# Altium schematic symbol library SARA-R510S-00B.SchLib: 1 symbol
Pins are listed as number, name and electrical type; pins without a type are passive.

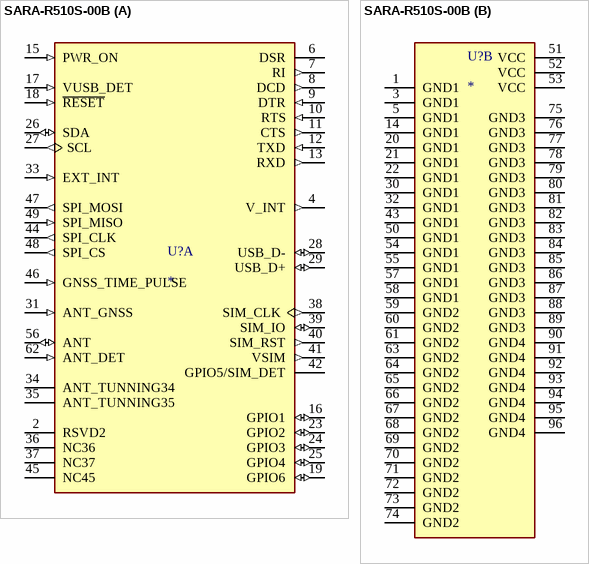
[diagram p0: symbol SARA-R510S-00B]

## SARA-R510S-00B
designator U?
Cellular LTE Cat M1, LTE Cat NB2 Transceiver Module 600MHz, 700MHz, 750MHz, 800MHz, 850MHz, 900MHz, 1.7GHz, 1.8GHz, 1.9GHz, 2.1GHz Antenna Not Included Surface Mount; MP: SARA-R510S-00B; MF: U-Blox; Package: SMD-96 u-blox; Availability: In Stock; Value: *; Purchase-URL: https://pricing.snapeda.com/search/part/SARA-R510S-00B/?ref=eda; Check_prices: https://www.snapeda.com/parts/SARA-R510S-00B/u-blox/view-part/?ref=eda; SnapEDA_Link: https://www.snapeda.com/parts/SARA-R510S-00B/u-blox/view-part/?ref=snap; Price: None
footprint MODULE_SARA-R510S-00B - CORRECTED
part A pins: 2 RSVD2, 4 V_INT (out), 6 DSR, 7 RI (out), 8 DCD (out), 9 DTR (in), 10 RTS (in), 11 CTS (out), 12 TXD (in), 13 RXD (out), 15 PWR_ON (in), 16 GPIO1 (io), 17 VUSB_DET (in), 18 ~{RESET} (in), 19 GPIO6 (io), 23 GPIO2 (io), 24 GPIO3 (io), 25 GPIO4 (io), 26 SDA (io), 27 SCL (out), 28 USB_D- (io), 29 USB_D+ (io), 31 ANT_GNSS (in), 33 EXT_INT (in), 34 ANT_TUNNING34, 35 ANT_TUNNING35, 36 NC36, 37 NC37, 38 SIM_CLK (out), 39 SIM_IO (io), 40 SIM_RST (out), 41 VSIM (out), 42 GPIO5/SIM_DET, 44 SPI_CLK (out), 45 NC45, 46 GNSS_TIME_PULSE (in), 47 SPI_MOSI (out), 48 SPI_CS (out), 49 SPI_MISO (in), 56 ANT (io), 62 ANT_DET (in)
part B pins: 1 GND1 (power), 3 GND1 (power), 5 GND1 (power), 14 GND1 (power), 20 GND1 (power), 21 GND1 (power), 22 GND1 (power), 30 GND1 (power), 32 GND1 (power), 43 GND1 (power), 50 GND1 (power), 51 VCC (power), 52 VCC (power), 53 VCC (power), 54 GND1 (power), 55 GND1 (power), 57 GND1 (power), 58 GND1 (power), 59 GND2 (power), 60 GND2 (power), 61 GND2 (power), 63 GND2 (power), 64 GND2 (power), 65 GND2 (power), 66 GND2 (power), 67 GND2 (power), 68 GND2 (power), 69 GND2 (power), 70 GND2 (power), 71 GND2 (power), 72 GND2 (power), 73 GND2 (power), 74 GND2 (power), 75 GND3 (power), 76 GND3 (power), 77 GND3 (power), 78 GND3 (power), 79 GND3 (power), 80 GND3 (power), 81 GND3 (power), 82 GND3 (power), 83 GND3 (power), 84 GND3 (power), 85 GND3 (power), 86 GND3 (power), 87 GND3 (power), 88 GND3 (power), 89 GND3 (power), 90 GND4 (power), 91 GND4 (power), 92 GND4 (power), 93 GND4 (power), 94 GND4 (power), 95 GND4 (power), 96 GND4 (power)